# Altium schematic symbol library Tiresias_logic.SchLib: 8 symbols
Pins are listed as number, name and electrical type; pins without a type are passive.

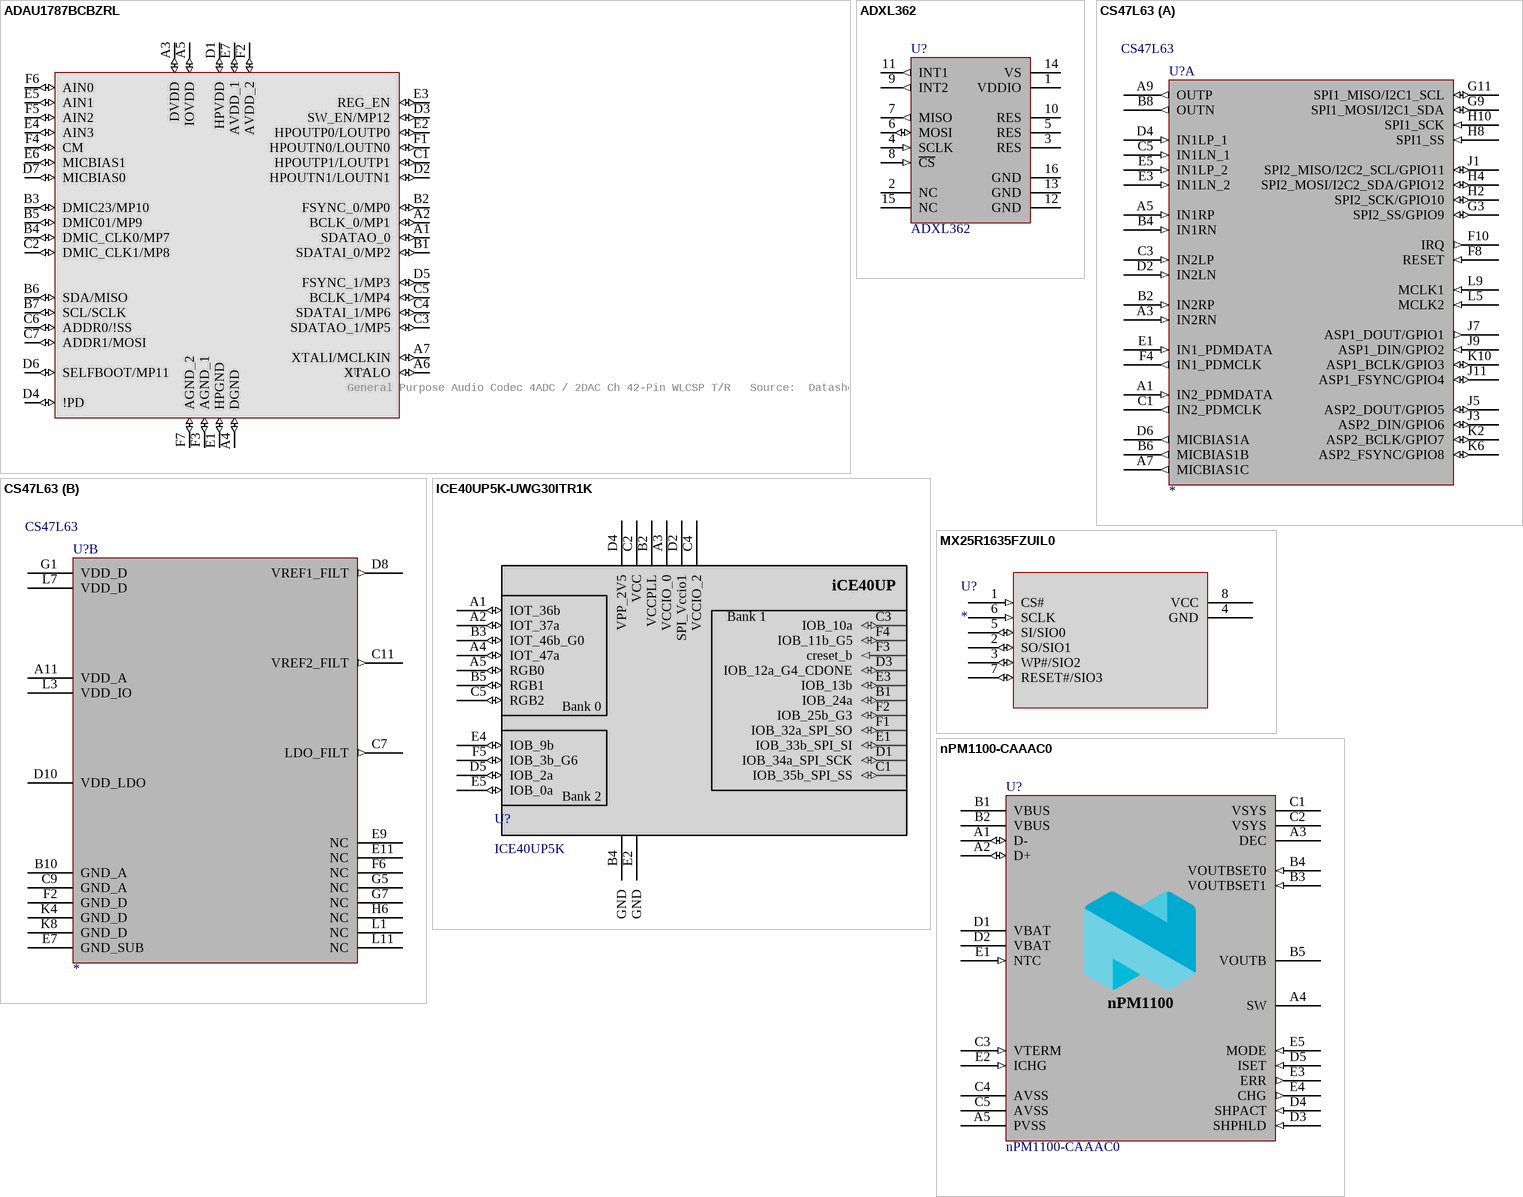
[diagram p0: symbols ADAU1787BCBZRL to nPM1100-CAAAC0]

## ADAU1787BCBZRL
designator IC?, comment General Purpose Audio Codec 4ADC / 2DAC Ch 42-Pin WLCSP T/R   Source:  Datasheet
Manufacturer_Name: Analog Devices; GateName_1: G$1; SymbolName_1: ADAU1787BCBZRL; LibraryName: ADAU1787BCBZRL; DeviceSetName: ADAU1787BCBZRL; Package: BGA42C35P7X6_270X232X53; Mouser_Part_Number: 584-ADAU1787BCBZRL; Mouser_Price-Stock: https://www.mouser.co.uk/ProductDetail/Analog-Devices/ADAU1787BCBZRL?qs=Zz7%252BYVVL6bEB%252B919c1w04A%3D%3D; Manufacturer_Part_Number: ADAU1787BCBZRL; Height: 0.53mm
footprint BGA42C35P7X6_270X232X53
pins: A1 SDATAO_0 (io), A2 BCLK_0/MP1 (io), A3 DVDD (io), A4 DGND (io), A5 IOVDD (io), A6 XTALO (io), A7 XTALI/MCLKIN (io), B1 SDATAI_0/MP2 (io), B2 FSYNC_0/MP0 (io), B3 DMIC23/MP10 (io), B4 DMIC_CLK0/MP7 (io), B5 DMIC01/MP9 (io), B6 SDA/MISO (io), B7 SCL/SCLK (io), C1 HPOUTP1/LOUTP1 (io), C2 DMIC_CLK1/MP8 (io), C3 SDATAO_1/MP5 (io), C4 SDATAI_1/MP6 (io), C5 BCLK_1/MP4 (io), C6 ADDR0/!SS (io), C7 ADDR1/MOSI (io), D1 HPVDD (io), D2 HPOUTN1/LOUTN1 (io), D3 SW_EN/MP12 (io), D4 !PD (io), D5 FSYNC_1/MP3 (io), D6 SELFBOOT/MP11 (io), D7 MICBIAS0 (io), E1 HPGND (io), E2 HPOUTP0/LOUTP0 (io), E3 REG_EN (io), E4 AIN3 (io), E5 AIN1 (io), E6 MICBIAS1 (io), E7 AVDD_1 (io), F1 HPOUTN0/LOUTN0 (io), F2 AVDD_2 (io), F3 AGND_1 (io), F4 CM (io), F5 AIN2 (io), F6 AIN0 (io), F7 AGND_2 (io)

## ADXL362
designator U?
Micropower, 3-Axis, ±2 g/±4 g/±8 g Digital Output MEMS Accelerometer; Manufacturer: Analog Devices; Part number IPS: 00000001799; Note: N.A.; Pad Count: 16; Part Number: ADXL362; Manufacturer Part Number: ADXL362; ComponentLink1URL: http://www.analog.com/media/en/technical-documentation/data-sheets/ADXL362.pdf; ComponentLink1Description: Datasheet; ComponentLink2URL: http://www.analog.com/en/products/adxl362.html; ComponentLink2Description: Supplier link; HelpURL: https://www.analog.com/media/en/technical-documentation/data-sheets/ADXL362.pdf; Footprint Doc: LGA-16; LatestRevisionDate: 2019-01-11; Published: 2019-01-11; Value: ADXL362; Supplier 1: Digi-Key; Supplier Part Number 1: ADXL362BCCZ-RL7CT-ND; Supplier 2: Mouser; Supplier Part Number 2: 584-ADXL362BCCZ-R7; Artikkelnr Noca: N.A.; Component Class: Misc_ICs; PartId: 101900573; JLCPCB Link: https://jlcpcb.com/partdetail/AnalogDevices-ADXL362BCCZRL/C59641
footprint LGA50P322X300X114-16N
pins: 1 VDDIO (power), 2 NC, 3 RES, 4 SCLK (in), 5 RES, 6 MOSI (io), 7 MISO (out), 8 ~{CS} (in), 9 INT2 (out), 10 RES, 11 INT1 (out), 12 GND (power), 13 GND (power), 14 VS (power), 15 NC, 16 GND (power)

## CS47L63
designator U?  Manufacturer Part Number: CS47L63
Low-Power Audio DSP with Microphone Interface and Mono Differential Headphone Driver; Manufacturer: Cirrus Logic; Class: SMT; Part Number: CS47L63; ComponentLink1URL: \\hizz\pro\app9717\Datasheet\integated circuits\cirrus logic\CS47L63_DS1249A1.pdf; ComponentLink1Description: Datasheet; ComponentLink2URL: N.A.; ComponentLink2Description: Supplier link; Author: rsk; Latest Revision Date: 2024-04-23; Value: *; Package: WLCSP-61; Pin Count: 61; JLCpcb link: https://jlcpcb.com/partdetail/Cirrus_Logic_inc-CS47L63CWZR/C3588069; Mouser link: https://www.mouser.com/ProductDetail/Cirrus-Logic/CS47L63-CWZR?qs=TCDPyi3sCW23GFOvCSVr7w%3D%3D; DigiKey link: https://www.digikey.com/en/products/detail/cirrus-logic-inc/CS47L63-CWZR/13617896?s=N4IgTCBcDaIMYGcAsB2ANgNgMwgLoF8g
footprint BGAS61C20P11X11_270X412X52
part A pins: A1 IN2_PDMDATA (in), A3 IN2RN (in), A5 IN1RP (in), A7 MICBIAS1C (out), A9 OUTP (out), B2 IN2RP (in), B4 IN1RN (in), B6 MICBIAS1B (out), B8 OUTN (out), C1 IN2_PDMCLK (out), C3 IN2LP (in), C5 IN1LN_1 (in), D2 IN2LN (in), D4 IN1LP_1 (in), D6 MICBIAS1A (out), E1 IN1_PDMDATA (in), E3 IN1LN_2 (in), E5 IN1LP_2 (in), F4 IN1_PDMCLK (out), F8 RESET (in), F10 IRQ (out), G3 SPI2_SS/GPIO9 (io), G9 SPI1_MOSI/I2C1_SDA (io), G11 SPI1_MISO/I2C1_SCL (io), H2 SPI2_SCK/GPIO10 (io), H4 SPI2_MOSI/I2C2_SDA/GPIO12 (io), H8 SPI1_SS (in), H10 SPI1_SCK (in), J1 SPI2_MISO/I2C2_SCL/GPIO11 (io), J3 ASP2_DIN/GPIO6 (io), J5 ASP2_DOUT/GPIO5 (io), J7 ASP1_DOUT/GPIO1 (out), J9 ASP1_DIN/GPIO2 (in), J11 ASP1_FSYNC/GPIO4 (io), K2 ASP2_BCLK/GPIO7 (io), K6 ASP2_FSYNC/GPIO8 (io), K10 ASP1_BCLK/GPIO3 (io), L5 MCLK2 (in), L9 MCLK1 (in)
part B pins: A11 VDD_A (power), B10 GND_A (power), C7 LDO_FILT (out), C9 GND_A (power), C11 VREF2_FILT (out), D8 VREF1_FILT (out), D10 VDD_LDO (power), E7 GND_SUB (power), E9 NC, E11 NC, F2 GND_D (power), F6 NC, G1 VDD_D (power), G5 NC, G7 NC, H6 NC, K4 GND_D (power), K8 GND_D (power), L1 NC, L3 VDD_IO (power), L7 VDD_D (power), L11 NC

## ICE40UP5K-UWG30ITR1K
designator U?, comment ICE40UP5K
iCE40 UltraPlus™ Field Programmable Gate Array (FPGA) IC 21 1171456 5280 30-UFBGA, WLCSP; Part Number: ICE40UP5K-UWG30ITR1K; Manufecturer: Lattice; Class: logic; Manufacturer Part Number: ICE40UP5K-UWG30ITR1K; Latest Revision Date: 2024-01-31; Value: ICE40UP5K; Package: 30WLCSP; Pin Count: 30; JLCpcb link: https://jlcpcb.com/partdetail/Lattice-ICE40UP3KUWG30ITR1K/C2678146; Mouser link: https://br.mouser.com/ProductDetail/Lattice/ICE40UP3K-UWG30ITR1K?qs=Rp3RbKSfAt1UpNOAJtrSmw%3D%3D; DigiKey link: https://www.digikey.com/en/products/detail/lattice-semiconductor-corporation/ICE40UP5K-UWG30ITR1K/6173797
footprint WLCSP30_LAT-M
pins: A1 IOT_36b (io), A2 IOT_37a (io), A3 VCCIO_0 (power), A4 IOT_47a (io), A5 RGB0 (io), B1 IOB_24a (io), B2 VCCPLL (power), B3 IOT_46b_G0 (io), B4 GND (power), B5 RGB1 (io), C1 IOB_35b_SPI_SS (io), C2 VCC (power), C3 IOB_10a (io), C4 VCCIO_2 (power), C5 RGB2 (io), D1 IOB_34a_SPI_SCK (io), D2 SPI_Vccio1 (power), D3 IOB_12a_G4_CDONE (io), D4 VPP_2V5 (power), D5 IOB_2a (io), E1 IOB_33b_SPI_SI (io), E2 GND (power), E3 IOB_13b (io), E4 IOB_9b (io), E5 IOB_0a (io), F1 IOB_32a_SPI_SO (io), F2 IOB_25b_G3 (io), F3 creset_b (in), F4 IOB_11b_G5 (io), F5 IOB_3b_G6 (io)
text: iCE40UP; Bank 1; Bank 0; Bank 2

## MX25R1635FZUIL0
designator U?
Wide Vcc Range 16M-BIT [x 1/x 2/x 4] CMOS MXSMIO (SERIAL MULTI I/O) FLASH MEMORY; Mfr_Name: Macronix; RefDes: RefDes; Type: Type
footprint USON-8L-2X3X0P6_MAC-L
pins: 1 CS# (in), 2 SO/SIO1 (io), 3 WP#/SIO2 (io), 4 GND (power), 5 SI/SIO0 (io), 6 SCLK (in), 7 RESET#/SIO3 (io), 8 VCC (power)

## nPM1100-CAAAC0
designator U?
Li-Ion/Li-Polymer USB battery charger with a high efficiency buck regulator; Manufacturer: Nordic Semiconductor; Pad Count: 25; Note: N.A.; Footprint Doc: WLCSP-25; Value: nPM1100-CAAAC0; Component Class: nRF_Devices; Author: rubr; Part Number: nPM1100-CAAAC0; Manufacturer Part Number: nPM1100-CAAAC0; ComponentLink1URL: N.A.; ComponentLink1Description: Datasheet; ComponentLink2URL: N.A.; ComponentLink2Description: Supplier link; HelpURL: N.A.; LatestRevisionDate: 2021-04-21; Published: 2021-04-21; Supplier 1: Nordic Semiconductor; Supplier Part Number 1: N.A.; Supplier 2: N.A.; Supplier Part Number 2: N.A.; Artikkelnr Noca: N.A.; Part number IPS: N.A.; Part number Norautron: N.A.; PartId: 102000225; JLCpcb link: https://jlcpcb.com/partdetail/NordicSemicon-NPM1100_CAAAR/C3682247; Mouser link: https://au.mouser.com/ProductDetail/Torex-Semiconductor/XCL210D201GR-G?qs=AsjdqWjXhJ%252Bfq4YmN5RHyA%3D%3D&_gl=1*8wexd*_ga*MTYyMjg1NzA0OC4xNzEzODc4NTc0*_ga_15W4STQT4T*MTcxMzk3OTMxMS4zLjAuMTcxMzk3OTMxMi41OS4wLjA.; DigiKey link: https://www.digikey.com/en/products/detail/torex-semiconductor-ltd/XCL210D201GR-G/10148097?s=N4IgTCBcDaIBoGEAyYCMAGAImdqDiASgLR4gC6AvkA
footprint BGA25C40P5X5_200X200X50
pins: A1 D- (io), A2 D+ (io), A3 DEC (power), A4 SW (power), A5 PVSS (power), B1 VBUS (power), B2 VBUS (power), B3 VOUTBSET1 (in), B4 VOUTBSET0 (in), B5 VOUTB (power), C1 VSYS (power), C2 VSYS (power), C3 VTERM (in), C4 AVSS (power), C5 AVSS (power), D1 VBAT (power), D2 VBAT (power), D3 SHPHLD (in), D4 SHPACT (in), D5 ISET (in), E1 NTC (in), E2 ICHG (in), E3 ERR (out), E4 CHG (out), E5 MODE (in)
text: nPM1100

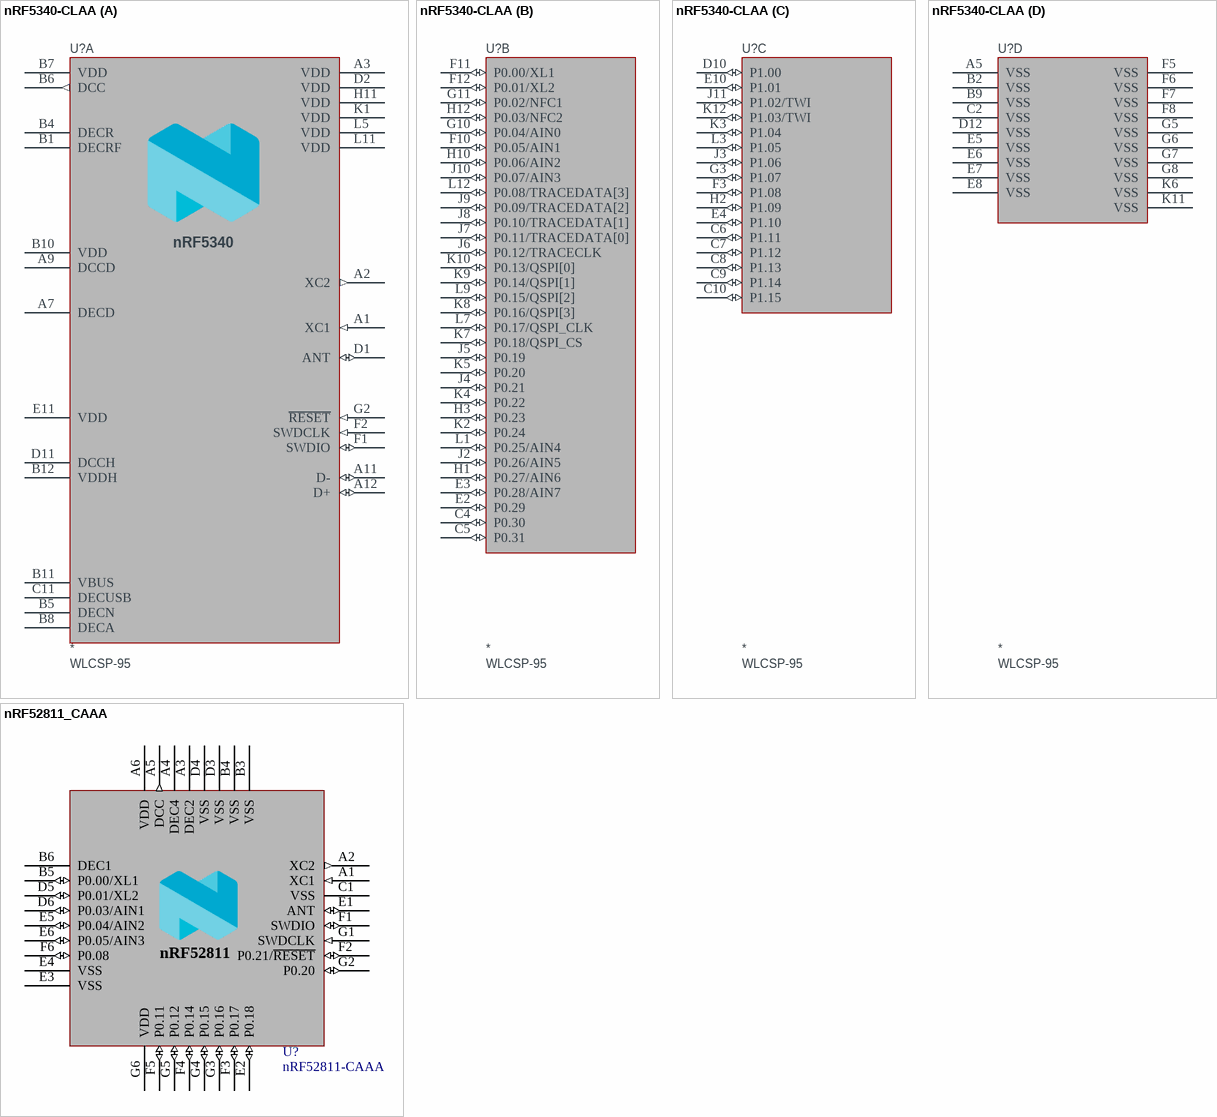
[diagram p1: symbols nRF5340-CLAA to nRF52811_CAAA]

## nRF5340-CLAA
designator U?  Package: WLCSP-95
Multi-protocol Bluetooth Low Energy, IEEE 802.15.4, ANT and 2.4GHz proprietary system-on-chip; Part Number: nRF5340-CLAA; Manufacturer: Nordic Semiconductors; Class: logic; Manufacturer Part Number: nRF5340-CLAA; Latest Revision Date: 2024/03/04; Value: *; Pin Count: 95; JLCpcb link: *; Mouser link: *; DigiKey link: *
footprint BGA95C35P12X11_437X397X50
part A pins: A1 XC1 (in), A2 XC2 (out), A3 VDD (power), A7 DECD (power), A9 DCCD (power), A11 D- (io), A12 D+ (io), B1 DECRF (power), B4 DECR (power), B5 DECN (power), B6 DCC (out), B7 VDD (power), B8 DECA (power), B10 VDD (power), B11 VBUS (power), B12 VDDH (power), C11 DECUSB (power), D1 ANT (io), D2 VDD (power), D11 DCCH (power), E11 VDD (power), F1 SWDIO (io), F2 SWDCLK (in), G2 ~{RESET} (in), H11 VDD (power), K1 VDD (power), L5 VDD (power), L11 VDD (power)
part B pins: C4 P0.30 (io), C5 P0.31 (io), E2 P0.29 (io), E3 P0.28/AIN7 (io), F10 P0.05/AIN1 (io), F11 P0.00/XL1 (io), F12 P0.01/XL2 (io), G10 P0.04/AIN0 (io), G11 P0.02/NFC1 (io), H1 P0.27/AIN6 (io), H3 P0.23 (io), H10 P0.06/AIN2 (io), H12 P0.03/NFC2 (io), J2 P0.26/AIN5 (io), J4 P0.21 (io), J5 P0.19 (io), J6 P0.12/TRACECLK (io), J7 P0.11/TRACEDATA[0] (io), J8 P0.10/TRACEDATA[1] (io), J9 P0.09/TRACEDATA[2] (io), J10 P0.07/AIN3 (io), K2 P0.24 (io), K4 P0.22 (io), K5 P0.20 (io), K7 P0.18/QSPI_CS (io), K8 P0.16/QSPI[3] (io), K9 P0.14/QSPI[1] (io), K10 P0.13/QSPI[0] (io), L1 P0.25/AIN4 (io), L7 P0.17/QSPI_CLK (io), L9 P0.15/QSPI[2] (io), L12 P0.08/TRACEDATA[3] (io)
part C pins: C6 P1.11 (io), C7 P1.12 (io), C8 P1.13 (io), C9 P1.14 (io), C10 P1.15 (io), D10 P1.00 (io), E4 P1.10 (io), E10 P1.01 (io), F3 P1.08 (io), G3 P1.07 (io), H2 P1.09 (io), J3 P1.06 (io), J11 P1.02/TWI (io), K3 P1.04 (io), K12 P1.03/TWI (io), L3 P1.05 (io)
part D pins: A5 VSS (power), B2 VSS (power), B9 VSS (power), C2 VSS (power), D12 VSS (power), E5 VSS (power), E6 VSS (power), E7 VSS (power), E8 VSS (power), F5 VSS (power), F6 VSS (power), F7 VSS (power), F8 VSS (power), G5 VSS (power), G6 VSS (power), G7 VSS (power), G8 VSS (power), K6 VSS (power), K11 VSS (power)
part A text: nRF5340

## nRF52811_CAAA
designator U?, comment nRF52811-CAAA
Multi-protocol Bluetooth Low Energy, IEEE 802.15.4, ANT and 2.4GHz proprietary system-on-chip; Part Number: nRF52811-CAAAA0; Manufacturer: Nordic Semiconductor; Class: logic; Manufacturer Part Number: nRF52811-CAAAA0; Latest Revision Date: 2024-01-31; Package: WLCSP-33; Pin Count: 33; Value: nRF52811-CAAA; Mouser link: https://br.mouser.com/ProductDetail/Nordic-Semiconductor/nRF52811-CAAA-R7?qs=gZXFycFWdAO63ozaGGh1Bg%3D%3D; DigiKey link: https://www.digikey.com.br/pt/products/detail/nordic-semiconductor-asa/NRF52811-CAAA-R7/13572785?s=N4IgTCBcDaIHYCUBiBWMAOAjJgtAYQEEicEB2EAXQF8g; JLCpcb link: https://jlcpcb.com/partdetail/NordicSemicon-NRF52811_CAAAR7/C3606813
footprint BGA33C40P6X6_247X246X50
pins: A1 XC1 (in), A2 XC2 (out), A3 DEC2 (power), A4 DEC4 (power), A5 DCC (out), A6 VDD (power), B3 VSS (power), B4 VSS (power), B5 P0.00/XL1 (io), B6 DEC1 (power), C1 VSS (power), D3 VSS (power), D4 VSS (power), D5 P0.01/XL2 (io), D6 P0.03/AIN1 (io), E1 ANT (io), E2 P0.18 (io), E3 VSS (power), E4 VSS (power), E5 P0.04/AIN2 (io), E6 P0.05/AIN3 (io), F1 SWDIO (io), F2 P0.21/~{RESET} (io), F3 P0.17 (io), F4 P0.14 (io), F5 P0.11 (io), F6 P0.08 (io), G1 SWDCLK (in), G2 P0.20 (io), G3 P0.16 (io), G4 P0.15 (io), G5 P0.12 (io), G6 VDD (power)
text: nRF52811